# Altium schematic symbol library AD8368ACPZ-REEL7.SchLib: 1 symbol
Pins are listed as number, name and electrical type; pins without a type are passive.

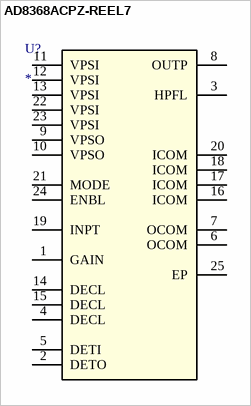
[diagram p0: symbol AD8368ACPZ-REEL7]

## AD8368ACPZ-REEL7
designator U?
800 MHz, Linear-in-dB VGA with AGC Detector; Copyright: Copyright (C) 2018 Accelerated Designs. All rights reserved; RefDes: RefDes; Type: DEV; Value: Value
footprint CP_24_3
pins: 1 GAIN, 2 DETO, 3 HPFL, 4 DECL, 5 DETI, 6 OCOM, 7 OCOM, 8 OUTP, 9 VPSO, 10 VPSO, 11 VPSI, 12 VPSI, 13 VPSI, 14 DECL, 15 DECL, 16 ICOM, 17 ICOM, 18 ICOM, 19 INPT, 20 ICOM, 21 MODE, 22 VPSI, 23 VPSI, 24 ENBL, 25 EP